# EAGLE library part 621014242921 (library Board_to_Board_Connectors_rev15d)
WR-PHD 2.00mm Dual SMT Socket Header, 14 Pins=>Code : Con_BTB_SHD_2.00_2_621014242921 <http://katalog.we-online.de/media/thumbs2/eican/thb_Con_BTB_SHD_2.00_2_6210xx242921_pf2.jpg> Details see: http://katalog.we-online.de/en/em/621_0xx_242_921 Created 2014-06-03, Karrer Zheng 2014 (C) Würth Elektronik
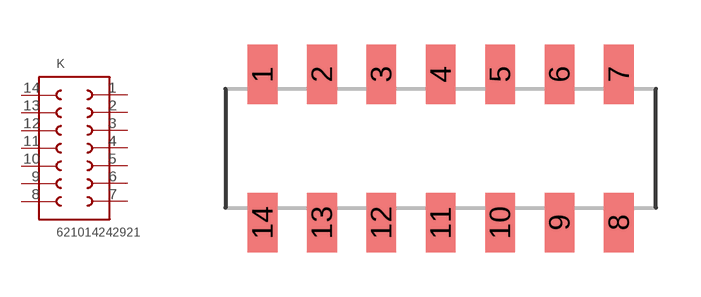
[diagram p269: symbol with the pads of 621014242921; footprint 621014242921]

Designator prefix K

## 621014242921  [621014242921]
1  1  pas
2  2  pas
3  3  pas
4  4  pas
5  5  pas
6  6  pas
7  7  pas
8  8  pas
9  9  pas
10  10  pas
11  11  pas
12  12  pas
13  13  pas
14  14  pas

## Footprint 621014242921 (pad centres in mm)
WR-PHD 2.00mm Dual SMT Socket Header, 14 Pins
smd 1 x 2: 1 -6,2.5; 2 -4,2.5; 3 -2,2.5; 4 0,2.5; 5 2,2.5; 6 4,2.5; 7 6,2.5; 8 6,-2.5; 9 4,-2.5; 10 2,-2.5; 11 0,-2.5; 12 -2,-2.5; 13 -4,-2.5; 14 -6,-2.5